# EAGLE library part LPC1768FBD100 (library IC_Embedded)
ARM Microcontrollers - MCU 512kB flash, 64kB SRAM, Ethernet, USB, LQFP100 package Datasheet <https://www.nxp.com/docs/en/data-sheet/LPC1769_68_67_66_65_64_63.pdf>
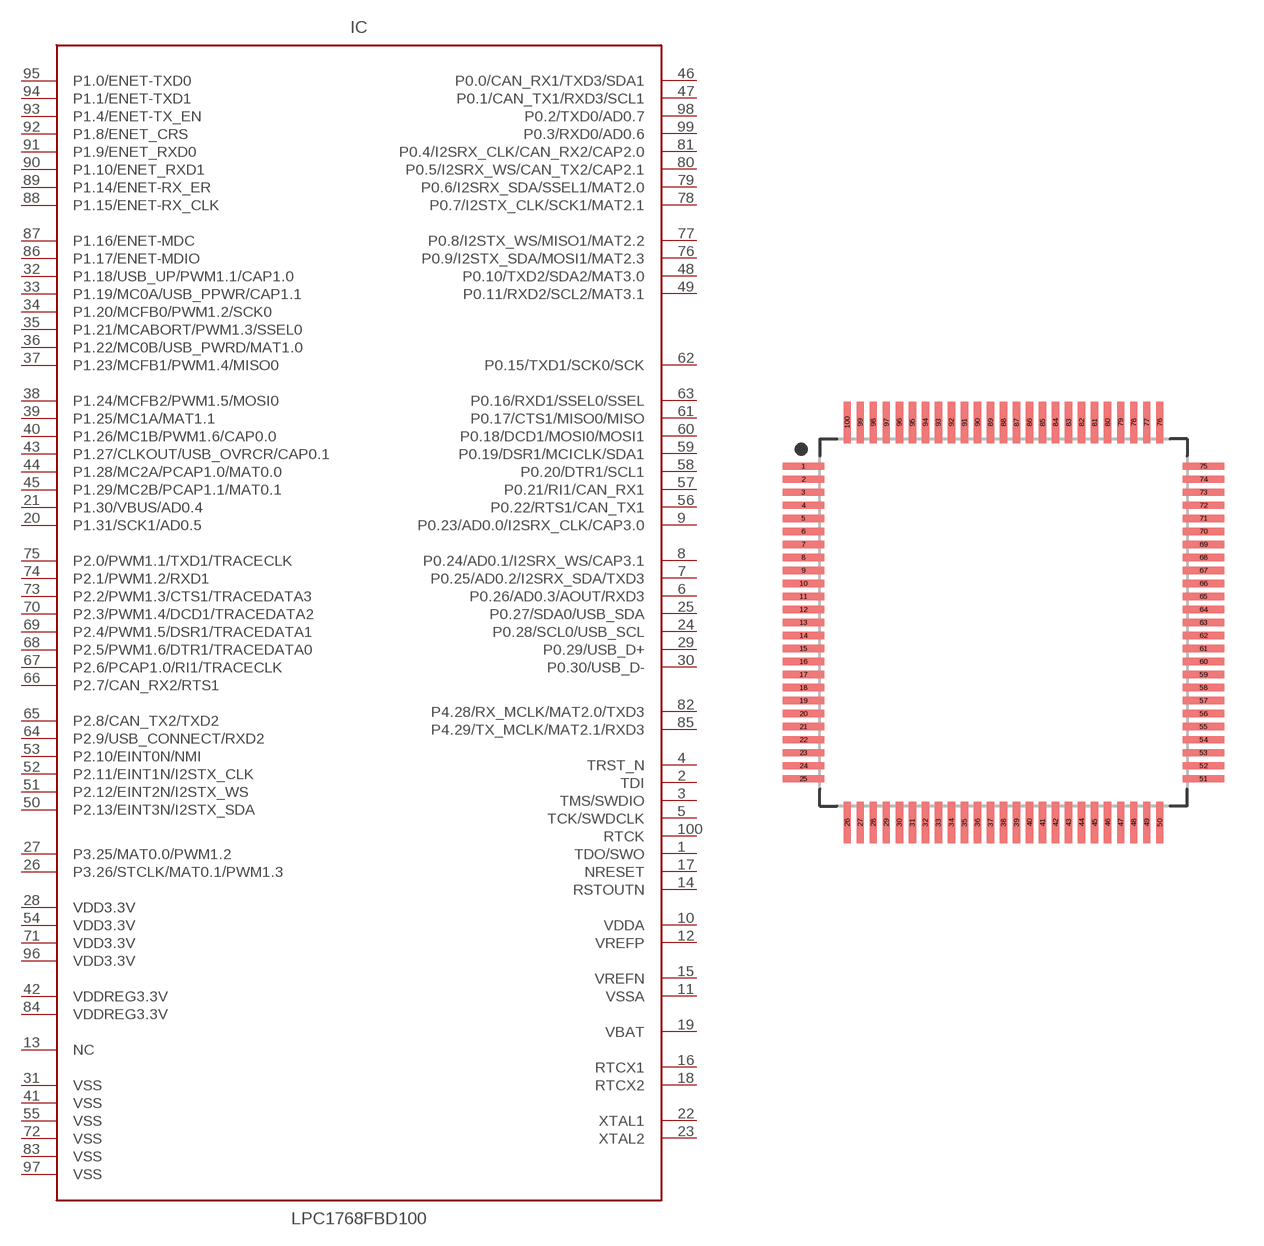
[diagram p0: symbol with the pads of LQFP50P1600X1600X160-100N; footprint LQFP50P1600X1600X160-100N]

Designator prefix IC

## LPC1768FBD100LQFP-100 (CATEGORY: Integrated Circuits (ICs) Embedded - Microcontrollers; DESCRIPTION: ARM Microcontrollers - MCU 512kB flash, 64kB SRAM, Ethernet, USB, LQFP100 package; MANUFACTURER: NXP Semiconductors; MPN: LPC1768FBD100; OPERATING_TEMPERATURE: - 40 C to + 85 C; PART_STATUS: ACTIVE; ROHS_COMPLIENT: COMPLIENT; SERIES: LPC17xx; SUB_CATEGORY: Microcontroller; TYPE: ARM Microcontrollers - MCU; VALUE: LPC1768)  [LQFP50P1600X1600X160-100N]
1  TDO/SWO
2  TDI
3  TMS/SWDIO
4  TRST_N
5  TCK/SWDCLK
6  P0.26/AD0.3/AOUT/RXD3
7  P0.25/AD0.2/I2SRX_SDA/TXD3
8  P0.24/AD0.1/I2SRX_WS/CAP3.1
9  P0.23/AD0.0/I2SRX_CLK/CAP3.0
10  VDDA
11  VSSA
12  VREFP
13  NC
14  RSTOUTN
15  VREFN
16  RTCX1
17  NRESET
18  RTCX2
19  VBAT
20  P1.31/SCK1/AD0.5
21  P1.30/VBUS/AD0.4
22  XTAL1
23  XTAL2
24  P0.28/SCL0/USB_SCL
25  P0.27/SDA0/USB_SDA
26  P3.26/STCLK/MAT0.1/PWM1.3
27  P3.25/MAT0.0/PWM1.2
28  VDD3.3V
29  P0.29/USB_D+
30  P0.30/USB_D-
31  VSS
32  P1.18/USB_UP/PWM1.1/CAP1.0
33  P1.19/MC0A/USB_PPWR/CAP1.1
34  P1.20/MCFB0/PWM1.2/SCK0
35  P1.21/MCABORT/PWM1.3/SSEL0
36  P1.22/MC0B/USB_PWRD/MAT1.0
37  P1.23/MCFB1/PWM1.4/MISO0
38  P1.24/MCFB2/PWM1.5/MOSI0
39  P1.25/MC1A/MAT1.1
40  P1.26/MC1B/PWM1.6/CAP0.0
41  VSS
42  VDDREG3.3V
43  P1.27/CLKOUT/USB_OVRCR/CAP0.1
44  P1.28/MC2A/PCAP1.0/MAT0.0
45  P1.29/MC2B/PCAP1.1/MAT0.1
46  P0.0/CAN_RX1/TXD3/SDA1
47  P0.1/CAN_TX1/RXD3/SCL1
48  P0.10/TXD2/SDA2/MAT3.0
49  P0.11/RXD2/SCL2/MAT3.1
50  P2.13/EINT3N/I2STX_SDA
51  P2.12/EINT2N/I2STX_WS
52  P2.11/EINT1N/I2STX_CLK
53  P2.10/EINT0N/NMI
54  VDD3.3V
55  VSS
56  P0.22/RTS1/CAN_TX1
57  P0.21/RI1/CAN_RX1
58  P0.20/DTR1/SCL1
59  P0.19/DSR1/MCICLK/SDA1
60  P0.18/DCD1/MOSI0/MOSI1
61  P0.17/CTS1/MISO0/MISO
62  P0.15/TXD1/SCK0/SCK
63  P0.16/RXD1/SSEL0/SSEL
64  P2.9/USB_CONNECT/RXD2
65  P2.8/CAN_TX2/TXD2
66  P2.7/CAN_RX2/RTS1
67  P2.6/PCAP1.0/RI1/TRACECLK
68  P2.5/PWM1.6/DTR1/TRACEDATA0
69  P2.4/PWM1.5/DSR1/TRACEDATA1
70  P2.3/PWM1.4/DCD1/TRACEDATA2
71  VDD3.3V
72  VSS
73  P2.2/PWM1.3/CTS1/TRACEDATA3
74  P2.1/PWM1.2/RXD1
75  P2.0/PWM1.1/TXD1/TRACECLK
76  P0.9/I2STX_SDA/MOSI1/MAT2.3
77  P0.8/I2STX_WS/MISO1/MAT2.2
78  P0.7/I2STX_CLK/SCK1/MAT2.1
79  P0.6/I2SRX_SDA/SSEL1/MAT2.0
80  P0.5/I2SRX_WS/CAN_TX2/CAP2.1
81  P0.4/I2SRX_CLK/CAN_RX2/CAP2.0
82  P4.28/RX_MCLK/MAT2.0/TXD3
83  VSS
84  VDDREG3.3V
85  P4.29/TX_MCLK/MAT2.1/RXD3
86  P1.17/ENET-MDIO
87  P1.16/ENET-MDC
88  P1.15/ENET-RX_CLK
89  P1.14/ENET-RX_ER
90  P1.10/ENET_RXD1
91  P1.9/ENET_RXD0
92  P1.8/ENET_CRS
93  P1.4/ENET-TX_EN
94  P1.1/ENET-TXD1
95  P1.0/ENET-TXD0
96  VDD3.3V
97  VSS
98  P0.2/TXD0/AD0.7
99  P0.3/RXD0/AD0.6
100  RTCK

## Footprint LQFP50P1600X1600X160-100N (pad centres in mm)
100-QFP, 0.50 mm pitch, 16.00 mm span, 14.00 X 14.00 X 1.60 mm body 100-pin QFP package with 0.50 mm pitch, 16.00 mm lead span1 X 16.00 mm lead span2 with body size 14.00 X 14.00 X 1.60 mm
smd 1.601 x 0.284: 1 -7.681,6; 2 -7.681,5.5; 3 -7.681,5; 4 -7.681,4.5; 5 -7.681,4; 6 -7.681,3.5; 7 -7.681,3; 8 -7.681,2.5; 9 -7.681,2; 10 -7.681,1.5; 11 -7.681,1; 12 -7.681,0.5; 13 -7.681,0; 14 -7.681,-0.5; 15 -7.681,-1; 16 -7.681,-1.5; 17 -7.681,-2; 18 -7.681,-2.5; 19 -7.681,-3; 20 -7.681,-3.5; 21 -7.681,-4; 22 -7.681,-4.5; 23 -7.681,-5; 24 -7.681,-5.5; 25 -7.681,-6; 51 7.681,-6; 52 7.681,-5.5; 53 7.681,-5; 54 7.681,-4.5; 55 7.681,-4; 56 7.681,-3.5; 57 7.681,-3; 58 7.681,-2.5; 59 7.681,-2; 60 7.681,-1.5; 61 7.681,-1; 62 7.681,-0.5; 63 7.681,0; 64 7.681,0.5; 65 7.681,1; 66 7.681,1.5; 67 7.681,2; 68 7.681,2.5; 69 7.681,3; 70 7.681,3.5; 71 7.681,4; 72 7.681,4.5; 73 7.681,5; 74 7.681,5.5; 75 7.681,6
smd 0.284 x 1.601: 26 -6,-7.681; 27 -5.5,-7.681; 28 -5,-7.681; 29 -4.5,-7.681; 30 -4,-7.681; 31 -3.5,-7.681; 32 -3,-7.681; 33 -2.5,-7.681; 34 -2,-7.681; 35 -1.5,-7.681; 36 -1,-7.681; 37 -0.5,-7.681; 38 0,-7.681; 39 0.5,-7.681; 40 1,-7.681; 41 1.5,-7.681; 42 2,-7.681; 43 2.5,-7.681; 44 3,-7.681; 45 3.5,-7.681; 46 4,-7.681; 47 4.5,-7.681; 48 5,-7.681; 49 5.5,-7.681; 50 6,-7.681; 76 6,7.681; 77 5.5,7.681; 78 5,7.681; 79 4.5,7.681; 80 4,7.681; 81 3.5,7.681; 82 3,7.681; 83 2.5,7.681; 84 2,7.681; 85 1.5,7.681; 86 1,7.681; 87 0.5,7.681; 88 0,7.681; 89 -0.5,7.681; 90 -1,7.681; 91 -1.5,7.681; 92 -2,7.681; 93 -2.5,7.681; 94 -3,7.681; 95 -3.5,7.681; 96 -4,7.681; 97 -4.5,7.681; 98 -5,7.681; 99 -5.5,7.681; 100 -6,7.681